# EAGLE library part MC14051BDTR2G (library ON Semiconductor_By_element14_Batch_1)
Multiplexers/Demultiplexers
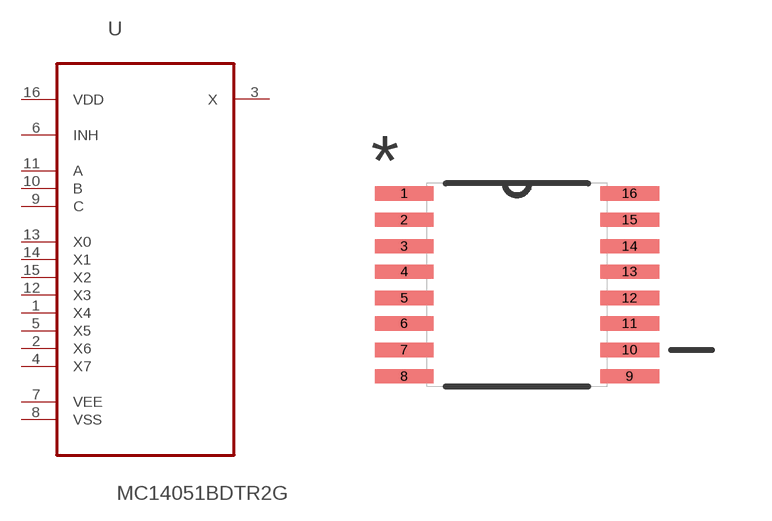
[diagram p242: symbol with the pads of SOP65P640X120-16N; footprint SOP65P640X120-16N]

Designator prefix U

## MC14051BDTR2G (MPN: MC14051BDTR2G; OC_FARNELL: -; OC_NEWARK: 42K0523; PACKAGE: TSSOP-16; SUPPLIER: ON SEMICONDUCTOR)  [SOP65P640X120-16N]
1  X4
2  X6
3  X
4  X7
5  X5
6  INH  in
7  VEE  pwr
8  VSS  pwr
9  C  in
10  B  in
11  A  in
12  X3
13  X0
14  X1
15  X2
16  VDD  pwr

## Footprint SOP65P640X120-16N (pad centres in mm)
smd 1.473 x 0.356: 1 -2.819,2.286; 2 -2.819,1.626; 3 -2.819,0.965; 4 -2.819,0.33; 5 -2.819,-0.33; 6 -2.819,-0.965; 7 -2.819,-1.626; 8 -2.819,-2.286; 9 2.819,-2.286; 10 2.819,-1.626; 11 2.819,-0.965; 12 2.819,-0.33; 13 2.819,0.33; 14 2.819,0.965; 15 2.819,1.626; 16 2.819,2.286